# Altium footprint library PcbLib.PcbLib: 19 footprints (part 2 of 2)
Each footprint in its own frame and in the unit in brackets; x right, y up, seen from the top. Pads: shape width x height; smd on the part's side, far side on the other; paste and mask are expansions set on the pad; w line width, h text height; cw(c..) or ccw(c..) is an arc to the next point about the centre after c.
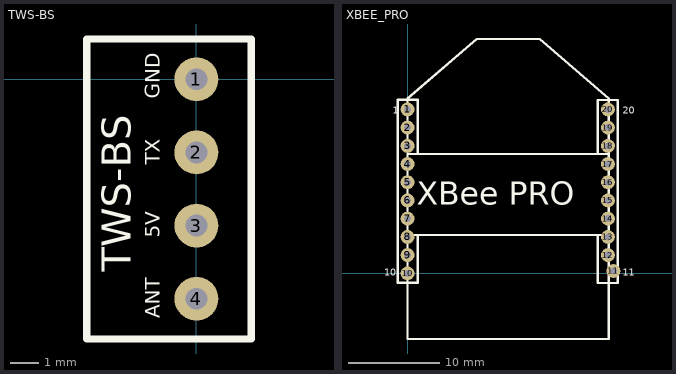
[diagram p1: the footprints below, top view; thin cyan lines are the x and y axes]

## SWITCH [mm]

## TWS-BS [mil] "Receptor RF (TX)"
height 520.08
pads (4):
  round 60 hole 30: 1(0,0) 2(0,-100) 3(0,-200) 4(0,-300)
Top Overlay:
  lines w10: -150,-355 0,-355 75,-355 75,55 0,55 -150,55 -150,-355
  text "GND" at -50,-26.66 h20
  text "TWS-BS" at -90,-263.3 h40
  text "5V" at -50,-216.66 h20
  text "TX" at -50,-116.66 h20
  text "ANT" at -50,-326.66 h20

## XBEE_PRO [mil]
pads (20):
  round 60 hole 30: 1(0,708.66) 2(0,629.92) 3(0,551.18) 4(0,472.44) 5(0,393.7) 6(0,314.96) 7(0,236.22) 8(0,157.48) 9(0,78.74) 10(0,0) 11(890,10) 12(866.14,78.74) 13(866.14,157.48) 14(866.14,236.22) 15(866.14,314.96) 16(866.14,393.7) 17(866.14,472.44) 18(866.14,551.18) 19(866.14,629.92) 20(866.14,708.66)
Top Overlay:
  lines w10: 0,166 870,166 ; 0,516 870,516 ; 43.73,165.25 43.73,-40.75 -42.27,-40.75 -42.27,750.25 43.73,750.25 ; 43.73,517.25 43.73,748.25 ; 822.41,-41.59 908.41,-41.59 908.41,749.41 822.41,749.41 822.41,516 ; 822.41,-39.59 822.41,166 ; 866.14,-284 0,-284 0,746 0,756 299,1013 571,1013 870,756 870,-284
  text "11" at 930,-10 h30
  text "20" at 930,690 h30
  text "10" at -100,-10 h30
  text "1" at -65.01,690 h30
  text "XBee PRO" at 40,296 h100
3D body: height 169.29, standoff -190, extent 820,-40 910,750.96
3D body: height 169.29, standoff -190, extent -45,-40 40,750.96
3D body: height 126, standoff -409, extent -53.07,-273.42 906.77,1023.43